# Altium footprint library EPS.PcbLib: 23 footprints (part 2 of 2)
Each footprint in its own frame and in the unit in brackets; x right, y up, seen from the top. Pads: shape width x height; smd on the part's side, far side on the other; paste and mask are expansions set on the pad; w line width, h text height; cw(c..) or ccw(c..) is an arc to the next point about the centre after c.
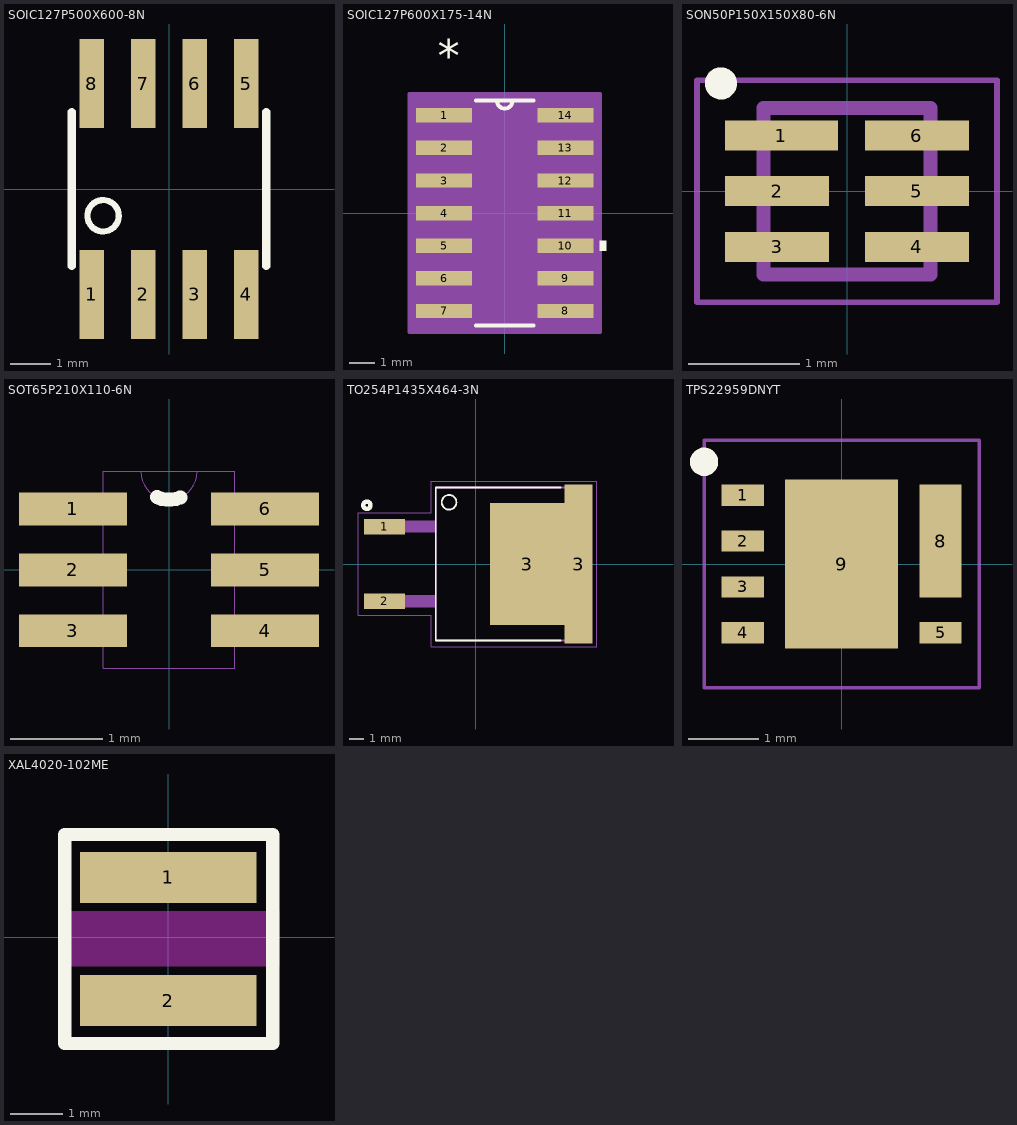
[diagram p1: the footprints below, top view; thin cyan lines are the x and y axes]

## SOIC127P500X600-8N [mm]
pads (8):
  rect 0.6x2.2 smd: 1(-1.905,-2.6) 2(-0.635,-2.6) 3(0.635,-2.6) 4(1.905,-2.6) 5(1.905,2.6) 6(0.635,2.6) 7(-0.635,2.6) 8(-1.905,2.6)
Top Overlay:
  circle w0.152: c-1.626,-0.66 r0.388
  lines w0.203: -2.4,-1.9 -2.4,-1.4 -2.4,1.9 ; 2.4,-1.9 2.4,-1.4 2.4,1.9
Mechanical 1:
  region: -2.152,3.1 -1.66,3.1 -1.66,2.002 -2.152,2.002
  region: -0.882,3.1 -0.39,3.1 -0.39,2.004 -0.882,2.004
  region: 0.391,3.1 0.88,3.1 0.88,2.005 0.391,2.005
  region: 1.663,3.1 2.15,3.1 2.15,2.004 1.663,2.004
  region: 1.662,-2 2.15,-2 2.15,-3.103 1.662,-3.103
  region: 0.39,-2 0.88,-2 0.88,-3.103 0.39,-3.103
  region: -0.882,-2 -0.39,-2 -0.39,-3.108 -0.882,-3.108
  region: -2.157,-2 -1.66,-2 -1.66,-3.11 -2.157,-3.11
3D body "SOIC127P500X600-8N.step": height 2.03, standoff 0, extent -2.46,-2.673 2.44,2.693

## SOIC127P600X175-14N [mil]
pads (14):
  rect 86x22 smd: 1(-93,150) 2(-93,100) 3(-93,50) 4(-93,0) 5(-93,-50) 6(-93,-100) 7(-93,-150) 8(93,-150) 9(93,-100) 10(93,-50) 11(93,0) 12(93,50) 13(93,100) 14(93,150)
Top Overlay:
  region: 146,-42.5 156,-42.5 156,-57.5 146,-57.5
  lines w6: -43.94,-172.5 43.94,-172.5 ; -43.94,172.5 43.94,172.5 ; -12,172.5 ccw(c0,172.5) 12,172.5
  text "*" at -103,217 h50
Mechanical 13:
  lines w0: -12,172.5 ccw(c0,172.5) 12,172.5
  lines w1: -122,-160 -122,-140 -79,-140 -79,-160 -122,-160 ; -122,-110 -122,-90 -79,-90 -79,-110 -122,-110 ; -122,-60 -122,-40 -79,-40 -79,-60 -122,-60 ; -122,-10 -122,10 -79,10 -79,-10 -122,-10 ; -122,40 -122,60 -79,60 -79,40 -122,40 ; -122,90 -122,110 -79,110 -79,90 -122,90 ; -122,140 -122,160 -79,160 -79,140 -122,140 ; -79,-172.5 79,-172.5 79,172.5 -79,172.5 -79,-172.5 ; 79,-160 79,-140 122,-140 122,-160 79,-160 ; 79,-110 79,-90 122,-90 122,-110 79,-110 ; 79,-60 79,-40 122,-40 122,-60 79,-60 ; 79,-10 79,10 122,10 122,-10 79,-10 ; 79,40 79,60 122,60 122,40 79,40 ; 79,90 79,110 122,110 122,90 79,90 ; 79,140 79,160 122,160 122,140 79,140
  text "*" at -103,217 h50
Mechanical 15:
  region: 146,-182.5 -146,-182.5 -146,182.5 146,182.5
  lines w6: -146,-182.5 -146,182.5 146,182.5 146,-182.5 -146,-182.5
3D body: height 10, standoff 0, extent 0,0 10,10

## SON50P150X150X80-6N [mm]
pads (6):
  rect 1.02x0.27 smd: 1(-0.59,0.5)
  rect 0.94x0.27 smd: 2(-0.63,0) 3(-0.63,-0.5) 4(0.63,-0.5) 5(0.63,0) 6(0.63,0.5)
Top Overlay:
  circle w0.15: c-1.135,0.97 r0.07
Mechanical 1:
  lines w0.05: -1.35,-1 1.35,-1 1.35,1 -1.35,1 -1.35,-1
  lines w0.127: -0.75,-0.75 0.75,-0.75 0.75,0.75 -0.75,0.75 -0.75,-0.75

## SOT65P210X110-6N [mil]
pads (6):
  rect 46x14 smd: 1(-41,26) 2(-41,0) 3(-41,-26) 4(41,-26) 5(41,0) 6(41,26)
Top Overlay:
  lines w6: -5.1,31.04 ccw(c0,41.97) 4.9,30.96
Mechanical 1:
  lines w0: -28,-31 -47,-31 -47,-20 -28,-20 ; -28,-31 -28,-20 ; -28,-31 -28,-42 28,-42 28,-31 ; -28,-20 -28,-6 ; -28,-6 -47,-6 -47,6 -28,6 ; -28,-6 -28,6 ; -28,6 -28,20 ; -28,20 -47,20 -47,31 -28,31 ; -28,20 -28,31 ; -28,31 -28,42 -12,42 ; -12,42 ccw(c0,42) 12,42 ; -12,42 12,42 ; 12,42 28,42 28,31 ; 28,-31 47,-31 47,-20 28,-20 ; 28,-31 28,-20 ; 28,-20 28,-6 ; 28,-6 47,-6 47,6 28,6 ; 28,-6 28,6 ; 28,6 28,20 ; 28,20 47,20 47,31 28,31 ; 28,20 28,31

## TO254P1435X464-3N [mm]
pads (4):
  rect 2.8x1.05 smd: 1(-6.19,2.54) 2(-6.19,-2.54)
  rect 5.08x8.33 smd: 3(3.53,0)
  rect 1.91x10.8 smd: 3(7.025,0)
Top Overlay:
  circle w0.127: c-1.8,4.2 r0.5
  circle w0.3: c-7.4,4 r0.25
  lines w0.127: 5.8,-5.21 -2.705,-5.21 -2.705,5.21 5.8,5.21
Mechanical 1:
  region: -7.173,-2.14 -2.705,-2.14 -2.705,-2.951 -7.173,-2.951
  region: -7.168,2.94 -2.705,2.94 -2.705,2.147 -7.168,2.147
  lines w0.05: -8,-3.5 -8,3.5 -3,3.5 -3,5.625 8.25,5.625 8.25,-5.625 -3,-5.625 -3,-3.5 -8,-3.5
  lines w0.127: -2.705,-5.21 7.205,-5.21 7.205,5.21 -2.705,5.21 -2.705,-5.21
3D body "SM74611KTTR.STEP": height 4.55, standoff -0.24, extent -7.318,-5.08 7.775,5.08

## TPS22959DNYT [mm]
height 0.8
pads (7):
  rect 0.6x0.3 smd: 1(-1.4,0.975) 2(-1.4,0.325) 3(-1.4,-0.325) 4(-1.4,-0.975) 5(1.4,-0.975)
  rect 0.6x1.6 smd: 8(1.4,0.325)
  rect 1.6x2.4 smd: 9(0,0)
Top Overlay:
  circle w0.2: c-1.95,1.448 r0.1
Top Paste:
  region: -0.735,-0.1 0.735,-0.1 0.735,-1.161 -0.735,-1.161
  region: -0.736,1.16 0.735,1.16 0.735,0.1 -0.736,0.1
Top Solder:
  region: 1.031,1.195 1.77,1.195 1.77,-0.545 1.031,-0.545
  region: 1.031,-0.755 1.77,-0.755 1.77,-1.196 1.031,-1.196
  region: -1.77,-0.755 -1.03,-0.755 -1.03,-1.195 -1.77,-1.195
  region: -1.773,-0.105 -1.03,-0.105 -1.03,-0.546 -1.773,-0.546
  region: -1.773,0.545 -1.03,0.545 -1.03,0.105 -1.773,0.105
  region: -1.773,1.195 -1.03,1.195 -1.03,0.756 -1.773,0.756
Mechanical 15:
  lines w0.05: -1.95,-1.75 1.95,-1.75 1.95,1.75 -1.95,1.75 -1.95,-1.75
3D body: height 0.8, standoff 0, extent -1.5,-1.5 1.5,1.5

## XAL4020-102ME [mm]
height 2.2
pads (2):
  rect 3.4x0.98 smd: 1(0,1.154) 2(0,-1.216)
Top Layer keep-out:
  rectangle: -2.108,-0.559 2.134,0.508
Top Overlay:
  lines w0.254: -1.993,1.958 -1.993,-2.042 2.007,-2.042 2.007,1.958 ; -1.993,1.981 2.007,1.981
3D body "Coilcraft-XAL4020.step": height 2.1, standoff 0, extent -2.143,-2.18 2.157,2.12